# EAGLE library part LOGIC-74HC595D(SOIC16) (library Seeed-OPL-ic)
310050009
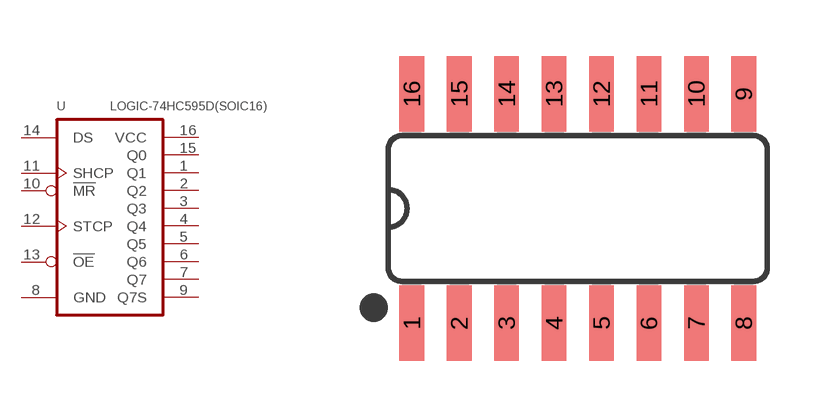
[diagram p41: symbol with the pads of SOIC16-1.27-10X3.9MM; footprint SOIC16-1.27-10X3.9MM]

Designator prefix U

## LOGIC-74HC595D(SOIC16) (MPN: 74HC595D; VALUE: 74HC595D-SOIC16)  [SOIC16-1.27-10X3.9MM]
1  Q1  hiz
2  Q2  hiz
3  Q3  hiz
4  Q4  hiz
5  Q5  hiz
6  Q6  hiz
7  Q7  hiz
8  GND  pwr
9  Q7S  hiz
10  !MR  in
11  SHCP  in
12  STCP  in
13  !OE  in
14  DS  in
15  Q0  hiz
16  VCC  pwr

## Footprint SOIC16-1.27-10X3.9MM (pad centres in mm)
Small Outline package 150 mil
smd 0.66 x 2.032: 1 -4.445,-3.073; 2 -3.175,-3.073; 3 -1.905,-3.073; 4 -0.635,-3.073; 5 0.635,-3.073; 6 1.905,-3.073; 7 3.175,-3.073; 8 4.445,-3.073; 9 4.445,3.073; 10 3.175,3.073; 11 1.905,3.073; 12 0.635,3.073; 13 -0.635,3.073; 14 -1.905,3.073; 15 -3.175,3.073; 16 -4.445,3.073